# Altium schematic symbol library ESP32_WROOM-32D.Schlib: 1 symbol
Pins are listed as number, name and electrical type; pins without a type are passive.

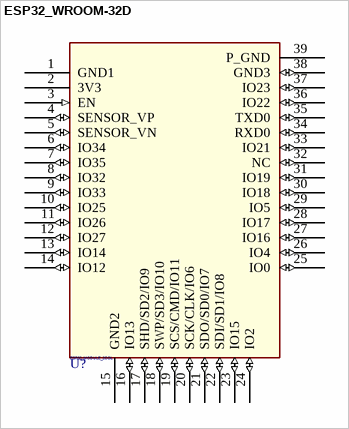
[diagram p0: symbol ESP32_WROOM-32D]

## ESP32_WROOM-32D
designator U?, comment ESP32_MODULE_2COL
LCSC Part #: C473012; ComponentLink1Description: LCSC - Espressif Systems ESP32-WROOM-32D; ComponentLink1URL: https://lcsc.com/product-detail/WiFi-Modules_Espressif-Systems-ESP32-WROOM-32D_C473012.html
footprint ESP32_WROOM
pins: 1 GND1 (power), 2 3V3 (power), 3 EN (in), 4 SENSOR_VP (io), 5 SENSOR_VN (io), 6 IO34 (io), 7 IO35 (io), 8 IO32 (io), 9 IO33 (io), 10 IO25 (io), 11 IO26 (io), 12 IO27 (io), 13 IO14 (io), 14 IO12 (io), 15 GND2 (power), 16 IO13 (io), 17 SHD/SD2/IO9 (io), 18 SWP/SD3/IO10 (io), 19 SCS/CMD/IO11 (io), 20 SCK/CLK/IO6 (io), 21 SDO/SD0/IO7 (io), 22 SDI/SD1/IO8 (io), 23 IO15 (io), 24 IO2 (io), 25 IO0 (io), 26 IO4 (io), 27 IO16 (io), 28 IO17 (io), 29 IO5 (io), 30 IO18 (io), 31 IO19 (io), 32 NC (io), 33 IO21 (io), 34 RXD0 (io), 35 TXD0 (io), 36 IO22 (io), 37 IO23 (io), 38 GND3 (io), 39 P_GND (power)